# Altium integrated library FX18-120S-0.8SV15.IntLib: 1 symbol
Pins are listed as number, name and electrical type; pins without a type are passive.

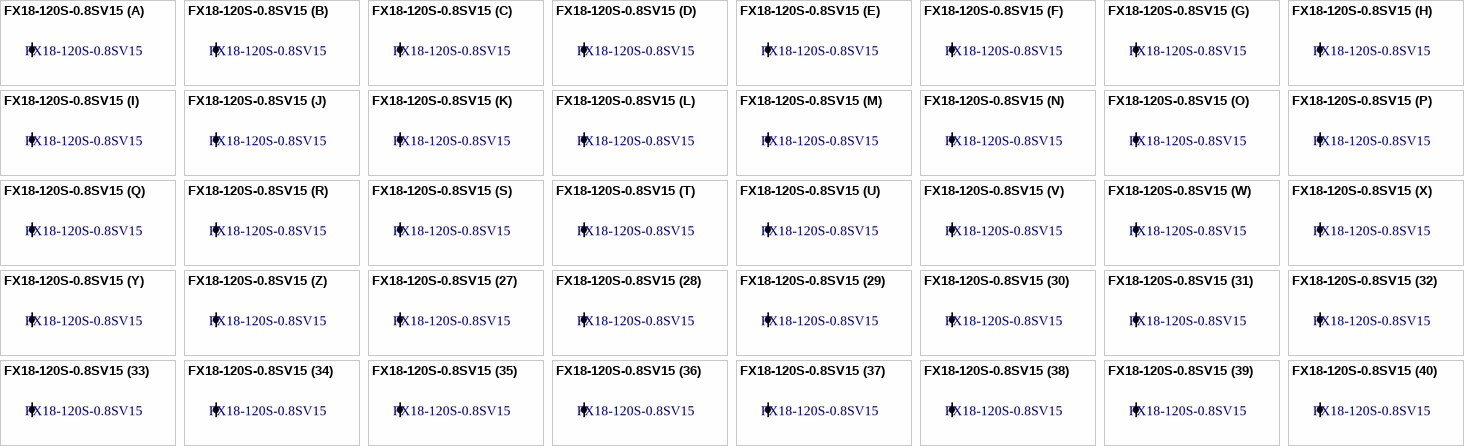
[diagram p0: symbol FX18-120S-0.8SV15]

## FX18-120S-0.8SV15
designator XS?
Розетка 120 контактов; Производитель: Hirose
footprint FX18-120S-0.8SV15 (Розетка 120 контактов)
part A pins: 1
part B pins: 2
part C pins: 3
part D pins: 4
part E pins: 5
part F pins: 6
part G pins: 7
part H pins: 8
part I pins: 9
part J pins: 10
part K pins: 11
part L pins: 12
part M pins: 13
part N pins: 14
part O pins: 15
part P pins: 16
part Q pins: 17
part R pins: 18
part S pins: 19
part T pins: 20
part U pins: 21
part V pins: 22
part W pins: 23
part X pins: 24
part Y pins: 25
part Z pins: 26
part 27 pins: 27
part 28 pins: 28
part 29 pins: 29
part 30 pins: 30
part 31 pins: 31
part 32 pins: 32
part 33 pins: 33
part 34 pins: 34
part 35 pins: 35
part 36 pins: 36
part 37 pins: 37
part 38 pins: 38
part 39 pins: 39
part 40 pins: 40
part 41 pins: 41
part 42 pins: 42
part 43 pins: 43
part 44 pins: 44
part 45 pins: 45
part 46 pins: 46
part 47 pins: 47
part 48 pins: 48
part 49 pins: 49
part 50 pins: 50
part 51 pins: 51
part 52 pins: 52
part 53 pins: 53
part 54 pins: 54
part 55 pins: 55
part 56 pins: 56
part 57 pins: 57
part 58 pins: 58
part 59 pins: 59
part 60 pins: 60
part 61 pins: 61
part 62 pins: 62
part 63 pins: 63
part 64 pins: 64
part 65 pins: 65
part 66 pins: 66
part 67 pins: 67
part 68 pins: 68
part 69 pins: 69
part 70 pins: 70
part 71 pins: 71
part 72 pins: 72
part 73 pins: 73
part 74 pins: 74
part 75 pins: 75
part 76 pins: 76
part 77 pins: 77
part 78 pins: 78
part 79 pins: 79
part 80 pins: 80
part 81 pins: 81
part 82 pins: 82
part 83 pins: 83
part 84 pins: 84
part 85 pins: 85
part 86 pins: 86
part 87 pins: 87
part 88 pins: 88
part 89 pins: 89
part 90 pins: 90
part 91 pins: 91
part 92 pins: 92
part 93 pins: 93
part 94 pins: 94
part 95 pins: 95
part 96 pins: 96
part 97 pins: 97
part 98 pins: 98
part 99 pins: 99
part 100 pins: 100
part 101 pins: 101
part 102 pins: 102
part 103 pins: 103
part 104 pins: 104
part 105 pins: 105
part 106 pins: 106
part 107 pins: 107
part 108 pins: 108
part 109 pins: 109
part 110 pins: 110
part 111 pins: 111
part 112 pins: 112
part 113 pins: 113
part 114 pins: 114
part 115 pins: 115
part 116 pins: 116
part 117 pins: 117
part 118 pins: 118
part 119 pins: 119
part 120 pins: 120